# Altium footprint library Miscellaneous$.PcbLib: 26 footprints (part 2 of 2)
Each footprint in its own frame and in the unit in brackets; x right, y up, seen from the top. Pads: shape width x height; smd on the part's side, far side on the other; paste and mask are expansions set on the pad; w line width, h text height; cw(c..) or ccw(c..) is an arc to the next point about the centre after c.
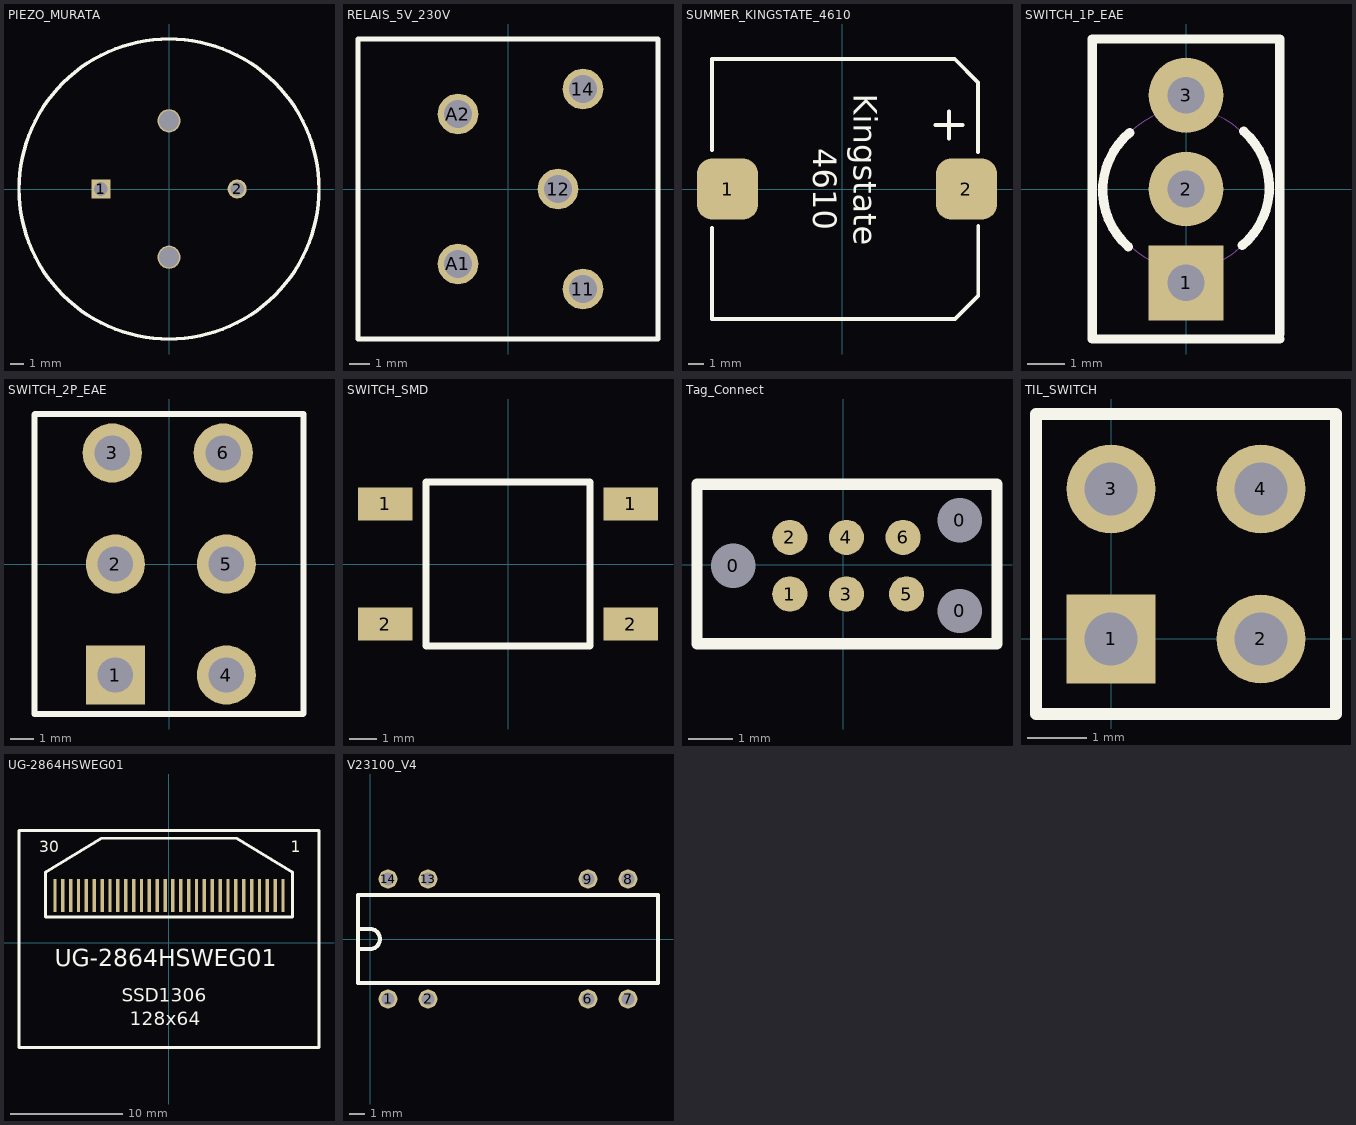
[diagram p1: the footprints below, top view; thin cyan lines are the x and y axes]

## PIEZO_MURATA [mm]
height 7
pads (4):
  rect 1.4x1.4 hole 1: 1(-5,0)
  round 1.4 hole 1: 2(5,0)
  round 1.7 hole 1.5: ""(0,-5) ""(0,5)
Top Overlay:
  circle w0.254: c0,0 r11
3D body: height 7, standoff 0, extent -10.957,-11 10.957,10.957

## RELAIS_5V_230V [mm]
height 20
pads (5):
  round 2.032 hole 1.4: 11(3.75,-5) 12(2.5,0) 14(3.75,5) A1(-2.5,-3.75) A2(-2.5,3.75)
Top Overlay:
  lines w0.254: -7.5,-7.5 7.5,-7.5 7.5,7.5 -7.5,7.5 -7.5,-7.5
3D body: height 20, standoff 0, extent -7.5,-7.5 7.5,7.5

## SUMMER_KINGSTATE_4610 [mm]
height 8
pads (2):
  rrect50% 4x4 smd: 1(-7.493,0) 2(8.128,0)
Top Overlay:
  lines w0.254: -8.5,-2.531 -8.5,-8.491 7.384,-8.491 8.89,-6.985 ; -8.5,2.549 -8.5,8.509 7.366,8.509 8.89,6.985 8.89,2.431 ; 6.096,4.191 7.874,4.191 ; 6.985,3.302 6.985,5.08 ; 8.899,-6.967 8.899,-2.413
  text "4610" at -1.905,2.667 h1.52
  text "Kingstate" at 0.762,6.223 h1.52
3D body: height 8, standoff 0, extent -8.458,-8.433 8.915,8.56

## SWITCH_1P_EAE [mil]
height 787.4
pads (3):
  rect 80x80 hole 39: 1(0,-100)
  round 80 hole 39: 2(0,0) 3(0,100)
Top Overlay:
  lines w10: -61.45,-61.67 cw(c-8.84,-1.4) -60.05,60.06 ; 60.05,-60.06 ccw(c8.84,1.4) 61.45,61.67 ; 100,-160 -100,-160 -100,160 100,160 100,-155
Mechanical 1:
  circle w1: c0,0 r85.15
3D body: height 314.96, standoff 0, extent -100,-160 100,160
3D body: height 787.4, standoff 325, extent -85.13,-85.13 85.13,85.13

## SWITCH_2P_EAE [mm]
height 30
pads (6):
  rect 2.5x2.5 hole 1.5: 1(-2.285,-4.7)
  round 2.5 hole 1.5: 2(-2.285,0) 3(-2.415,4.7) 4(2.415,-4.7) 5(2.415,0) 6(2.285,4.7)
Top Overlay:
  lines w0.254: -5.715,6.325 -5.715,-6.35 5.664,-6.35 ; -5.69,6.35 5.69,6.35 5.69,-6.325
3D body: height 30, standoff 10.29, extent -2.162,-2.162 2.162,2.162
3D body: height 10, standoff 0, extent -5.715,-6.375 5.664,6.35

## SWITCH_SMD [mm]
height 4
pads (4):
  rect 2x1.2 smd: 1(-4.5,2.2) 1(4.5,2.2) 2(-4.5,-2.2) 2(4.5,-2.2)
Top Overlay:
  lines w0.254: -3,-3 3,-3 3,3 -3,3 -3,-3
3D body: height 3.7, standoff 0, extent -3,-3 3,2.945
3D body: height 5, standoff 4, extent -1.75,-1.747 1.736,1.747
3D body: height 1, standoff 0, extent -5.02,1.723 -3.35,2.677
3D body: height 1, standoff 0, extent 3.35,-2.677 5.02,-1.723
3D body: height 1, standoff 0, extent 3.35,1.7 5.02,2.653
3D body: height 1, standoff 0, extent -5.02,-2.677 -3.35,-1.723

## Tag_Connect [mm]
height 1
pads (9):
  round 0.9 hole 0.995 unplated: 0(-2.464,-0.025) 0(2.616,-1.041) 0(2.616,0.991)
  round 0.79 smd paste-0.39: 1(-1.194,-0.66) 2(-1.194,0.61) 3(0.076,-0.66) 4(0.076,0.61) 5(1.426,-0.66) 6(1.346,0.61)
Top Overlay:
  lines w0.254: -3.277,-1.778 3.454,-1.778 3.454,1.803 -3.277,1.803 -3.277,-1.778
3D body: height 1, standoff 0, extent -3.277,-1.778 3.454,1.803

## TIL_SWITCH [mm]
height 5
pads (4):
  rect 1.5x1.5 hole 0.9: 1(0,0)
  round 1.5 hole 0.9: 2(2.54,0) 3(0,2.54) 4(2.54,2.54)
Top Overlay:
  lines w0.2: -1.27,-1.27 -1.27,3.81 3.81,3.81 3.81,-1.27 -1.27,-1.27
3D body: height 6, standoff 0, extent -1.33,-7 3.861,3.785

## UG-2864HSWEG01 [mm]
height 3
pads (30):
  rect 0.3x2.9 smd: 1(10.15,4.2) 2(9.45,4.2) 3(8.75,4.2) 4(8.05,4.2) 5(7.35,4.2) 6(6.65,4.2) 7(5.95,4.2) 8(5.25,4.2) 9(4.55,4.2) 10(3.85,4.2) 11(3.15,4.2) 12(2.45,4.2) 13(1.75,4.2) 14(1.05,4.2) 15(0.35,4.2) 16(-0.35,4.2) 17(-1.05,4.2) 18(-1.75,4.2) 19(-2.45,4.2) 20(-3.15,4.2) 21(-3.85,4.2) 22(-4.55,4.2) 23(-5.25,4.2) 24(-5.95,4.2) 25(-6.65,4.2) 26(-7.35,4.2) 27(-8.05,4.2) 28(-8.75,4.2) 29(-9.45,4.2) 30(-10.15,4.2)
Top Overlay:
  lines w0.254: -13.35,9.924 -13.35,-9.336 13.35,-9.336 ; -13.35,10 13.35,10 13.35,-9.26 ; 6,9.294 -6,9.294 -11,6.294 -11,2.294 11,2.294 11,6.294 6,9.294 ; 6,9.294 6,9.294
  text "128x64" at -3.5,-7.35 h1.2
  text "UG-2864HSWEG01" at -10.15,-2.1 h1.52
  text "1" at 10.85,8.05 h1
  text "30" at -11.55,8.05 h1
  text "SSD1306" at -4.2,-5.25 h1.2
3D body: height 5, standoff 4.1, extent -12,-8 12,6.15
3D body: height 4, standoff 3, extent -13.35,-9.336 13.35,10

## V23100_V4 [mm]
height 5.7
pads (8):
  round 1.2 hole 0.8: 1(1.143,-3.81) 2(3.683,-3.81) 6(13.843,-3.81) 7(16.383,-3.81) 8(16.383,3.81) 9(13.843,3.81) 13(3.683,3.81) 14(1.143,3.81)
Top Overlay:
  lines w0.254: -0.762,0.635 0,0.635 cw(c0,0) 0,-0.635 -0.635,-0.635 ; -0.762,-2.794 18.288,-2.794 18.288,2.794 -0.762,2.794 -0.762,-2.794
3D body: height 5.6, standoff 0.2, extent -0.8,-3.8 18.3,3.7